# Altium schematic symbol library 74CBTLV3257BQ_115.SchLib: 1 symbol
Pins are listed as number, name and electrical type; pins without a type are passive.

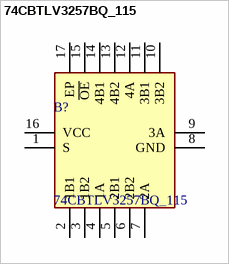
[diagram p0: symbol 74CBTLV3257BQ_115]

## 74CBTLV3257BQ_115
designator B?
Encoders, Decoders, Multiplexers & Demultiplexers 8IN 2.3-3.6V 500 mW; Manufacturer_Name: Nexperia; Manufacturer_Part_Number: 74CBTLV3257BQ,115; Geometry.Height: 1mm; Mouser Part Number: 771-74CBTLV3257BQ115; Mouser Price/Stock: https://www.mouser.co.uk/ProductDetail/Nexperia/74CBTLV3257BQ115?qs=jquClx72t9Cqv7jLVFQulg%3D%3D; Arrow Part Number: 74CBTLV3257BQ,115; Arrow Price/Stock: https://www.arrow.com/en/products/74cbtlv3257bq115/nexperia?region=nac; Datasheet Link: https://assets.nexperia.com/documents/data-sheet/74CBTLV3257.pdf
footprint 74CBTLV3257BQ115
pins: 1 S, 2 1B1, 3 1B2, 4 1A, 5 2B1, 6 2B2, 7 2A, 8 GND, 9 3A, 10 3B2, 11 3B1, 12 4A, 13 4B2, 14 4B1, 15 ~{OE}, 16 VCC, 17 EP